# Altium schematic symbol library Headers.SchLib: 15 symbols
Pins are listed as number, name and electrical type; pins without a type are passive.

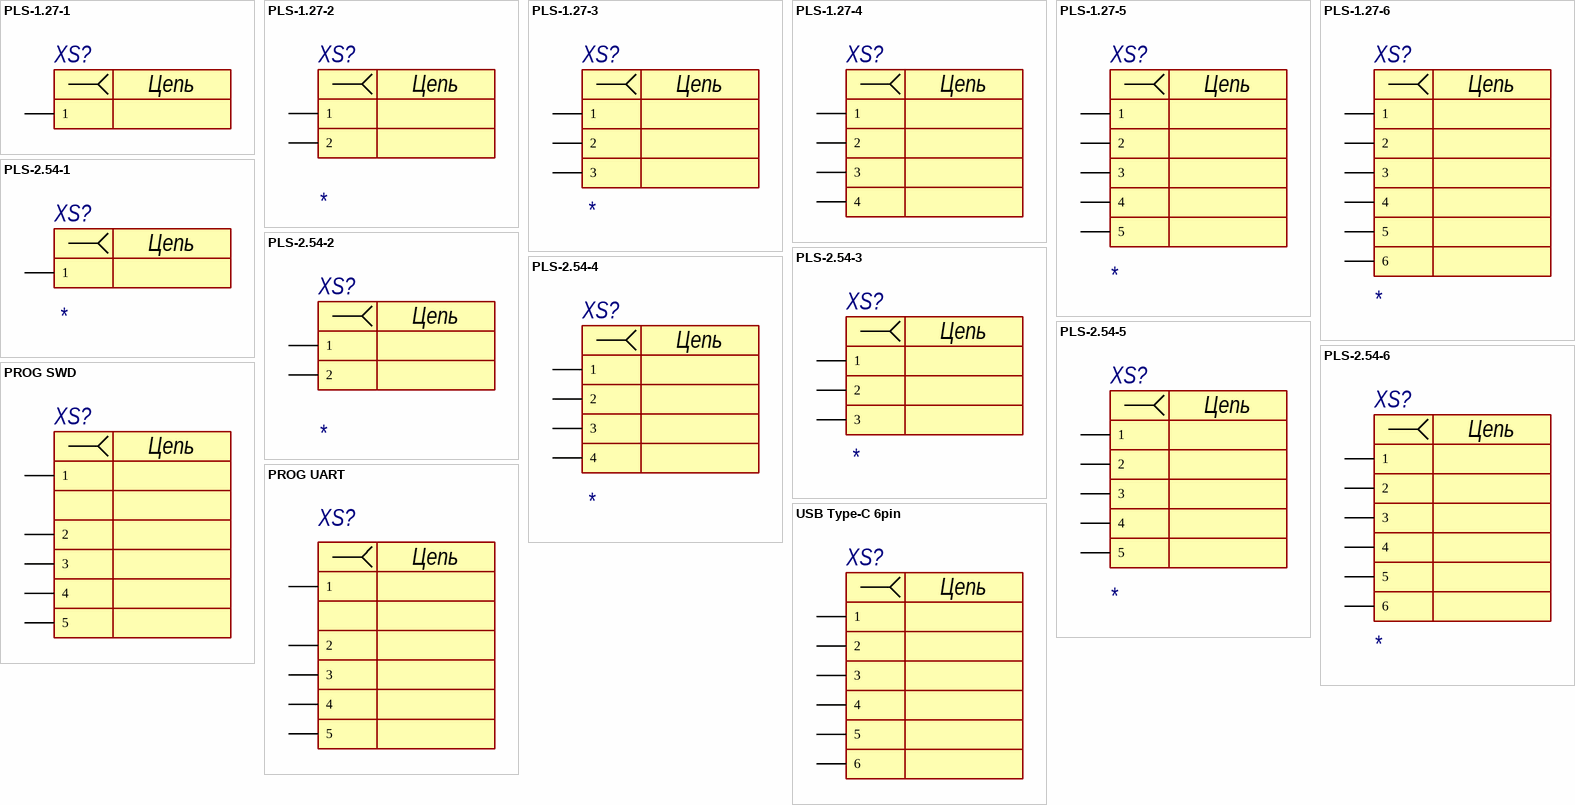
[diagram p0: symbols PLS-1.27-1 to USB Type-C 6pin]

## PLS-1.27-1
designator XS?  (value not drawn)
pins: 1
text: Цепь

## PLS-1.27-2
designator XS?
pins: 1, 2
text: Цепь

## PLS-1.27-3
designator XS?
pins: 1, 2, 3
text: Цепь

## PLS-1.27-4
designator XS?  (value not drawn)
pins: 1, 2, 3, 4
text: Цепь

## PLS-1.27-5
designator XS?
pins: 1, 2, 3, 4, 5
text: Цепь

## PLS-1.27-6
designator XS?
pins: 1, 2, 3, 4, 5, 6
text: Цепь

## PLS-2.54-1
designator XS?
pins: 1
text: Цепь

## PLS-2.54-2
designator XS?
pins: 1, 2
text: Цепь

## PLS-2.54-3
designator XS?
pins: 1, 2, 3
text: Цепь

## PLS-2.54-4
designator XS?
pins: 1, 2, 3, 4
text: Цепь

## PLS-2.54-5
designator XS?
pins: 1, 2, 3, 4, 5
text: Цепь

## PLS-2.54-6
designator XS?
pins: 1, 2, 3, 4, 5, 6
text: Цепь

## PROG SWD
designator XS?  (value not drawn)
pins: 1, 2, 3, 4, 5
text: Цепь

## PROG UART
designator XS?  (value not drawn)
pins: 1, 2, 3, 4, 5
text: Цепь

## USB Type-C 6pin
designator XS?
pins: 1, 2, 3, 4, 5, 6
text: Цепь